# Altium footprint library WO1602G.PcbLib: 1 footprints
Each footprint in its own frame and in the unit in brackets; x right, y up, seen from the top. Pads: shape width x height; smd on the part's side, far side on the other; paste and mask are expansions set on the pad; w line width, h text height; cw(c..) or ccw(c..) is an arc to the next point about the centre after c.
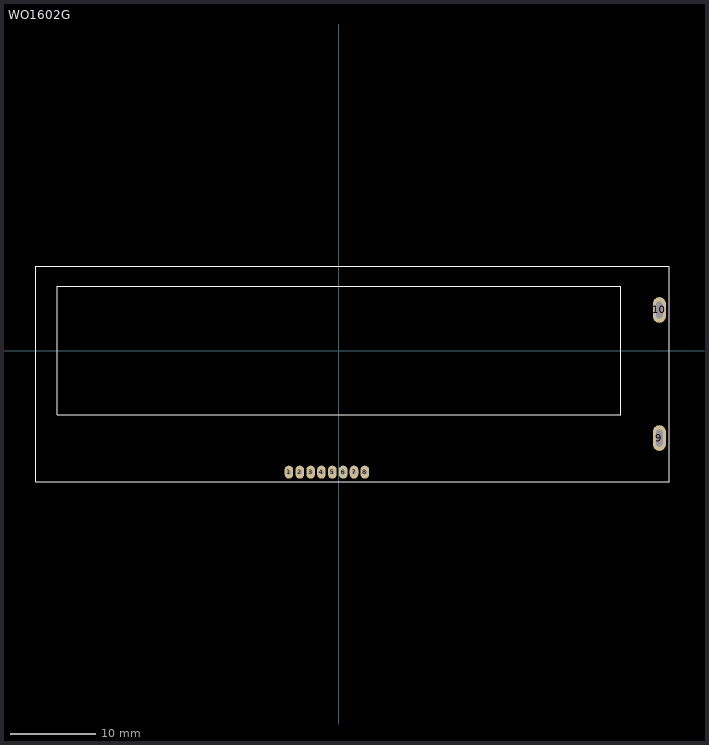
[diagram p0: the footprint, top view; thin cyan lines are the x and y axes]

## WO1602G [mm]
pads (10):
  oval 1x1.524 hole 0.5: 1(-5.845,-14.25) 2(-4.575,-14.25) 3(-3.305,-14.25) 4(-2.035,-14.25) 5(-0.765,-14.25) 6(0.505,-14.25) 7(1.775,-14.25) 8(3.045,-14.25)
  oval 1.524x3 hole 0.75 slot 2 at 90 deg: 9(37.55,-10.25) 10(37.55,4.75)
Top Overlay:
  lines w0.127: -35.5,-15.35 -35.5,9.85 38.7,9.85 38.7,-15.35 -35.5,-15.35 ; -33,-7.55 -33,7.55 33,7.55 33,-7.55 -33,-7.55
3D body: height 7.1, standoff -2.9, extent -35.5,-15.35 38.7,9.85